# Altium footprint library CS17-F2GA103MYNS.PcbLib: 1 footprints
Each footprint in its own frame and in the unit in brackets; x right, y up, seen from the top. Pads: shape width x height; smd on the part's side, far side on the other; paste and mask are expansions set on the pad; w line width, h text height; cw(c..) or ccw(c..) is an arc to the next point about the centre after c.
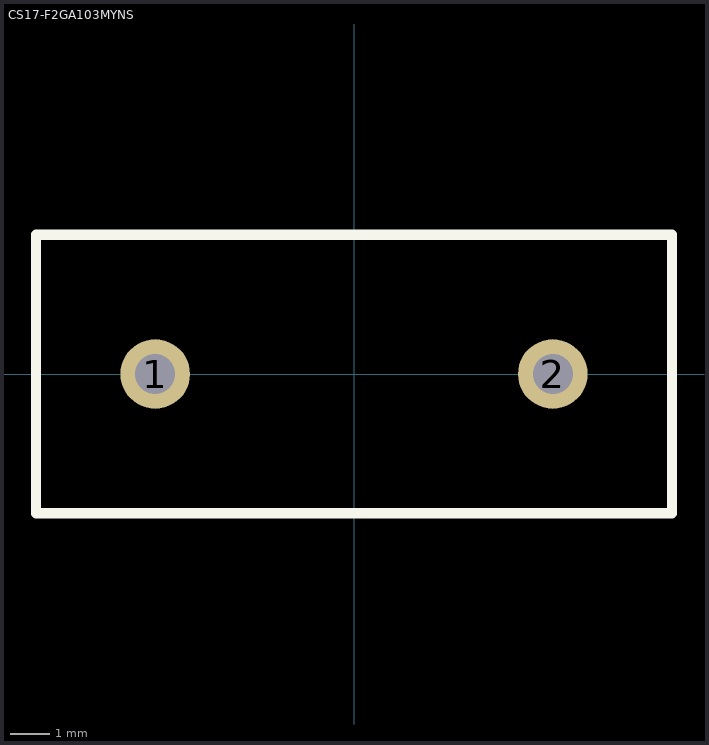
[diagram p0: the footprint, top view; thin cyan lines are the x and y axes]

## CS17-F2GA103MYNS [mm] "10mm Non-polarized Capacitor"
pads (2):
  round 1.75 hole 1: 1(-5,0) 2(5,0)
Top Overlay:
  lines w0.254: -8,-3.5 -8,3.5 8,3.5 8,-3.5 -8,-3.5
3D body: height 6.77, standoff -2.08, extent 2.738,-0.33 5.644,0.269
3D body: height 6.77, standoff -2.08, extent -5.513,-0.356 -2.606,0.243
3D body: height 17.98, standoff 2.02, extent -7.932,-2.29 8.005,2.21